# Altium footprint library Reg_Fairchild_LM7805CT_eec_0.PcbLib: 1 footprints
Each footprint in its own frame and in the unit in brackets; x right, y up, seen from the top. Pads: shape width x height; smd on the part's side, far side on the other; paste and mask are expansions set on the pad; w line width, h text height; cw(c..) or ccw(c..) is an arc to the next point about the centre after c.
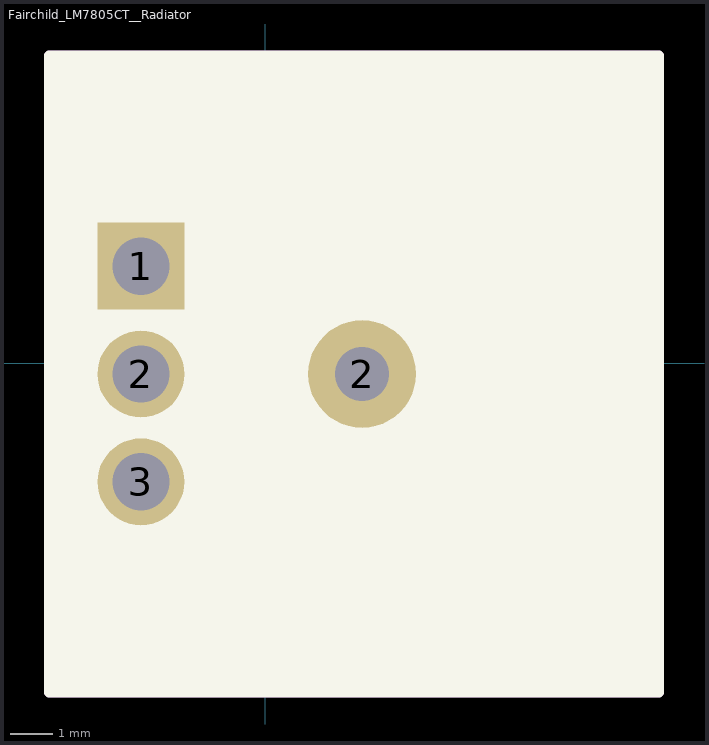
[diagram p0: the footprint, top view; thin cyan lines are the x and y axes]

## Fairchild_LM7805CT__Radiator [mm]
pads (4):
  rect 2.05x2.05 hole 1.35 paste-1000 mask+0: 1(-2.921,2.286)
  round 2.05 hole 1.35 paste-1000 mask+0: 2(-2.921,-0.254) 3(-2.921,-2.794)
  round 2.54 hole 1.27: 2(2.286,-0.254)
Top Overlay:
  circle w0.25: c0,5.579 r0.125
  rectangle: -5.08,-7.747 9.271,7.239
  lines w0.2: 2.175,-5.079 -2.175,-4.063 -2.175,4.063 2.175,5.079 ; 2.175,-5.029 2.175,5.029
  lines w0.254: -5.08,-7.747 9.271,-7.747 9.271,7.239 -5.08,7.239 -5.08,-7.747
Bottom Overlay:
  lines w0.254: -5.08,-7.747 9.271,-7.747 9.271,7.239 -5.08,7.239 -5.08,-7.747
Mechanical 10:
  lines w0.2: -2.45,-5.435 2.45,-5.435 2.45,5.435 -2.45,5.435 -2.45,-5.435
  text ".Designator" at 0,0 h1
Mechanical 12:
  lines w0.15: -2.175,-5.08 2.175,-5.08 2.175,5.08 -2.175,5.08 -2.175,-5.08
  lines w0.254: -5.08,-7.747 9.271,-7.747 9.271,7.239 -5.08,7.239 -5.08,-7.747
Mechanical 15:
  lines w0.1: -0.5,0 0.5,0 ; 0,-0.5 0,0.5
  lines w0.2: -2.45,-5.435 2.45,-5.435 2.45,5.435 -2.45,5.435 -2.45,-5.435
3D body "7805_Radiator.STEP": height 25.6, standoff -3.4, extent -5.082,-7.747 9.248,7.253